# Altium schematic symbol library Microchip PIC12.SchLib: 457 symbols (part 7 of 15)
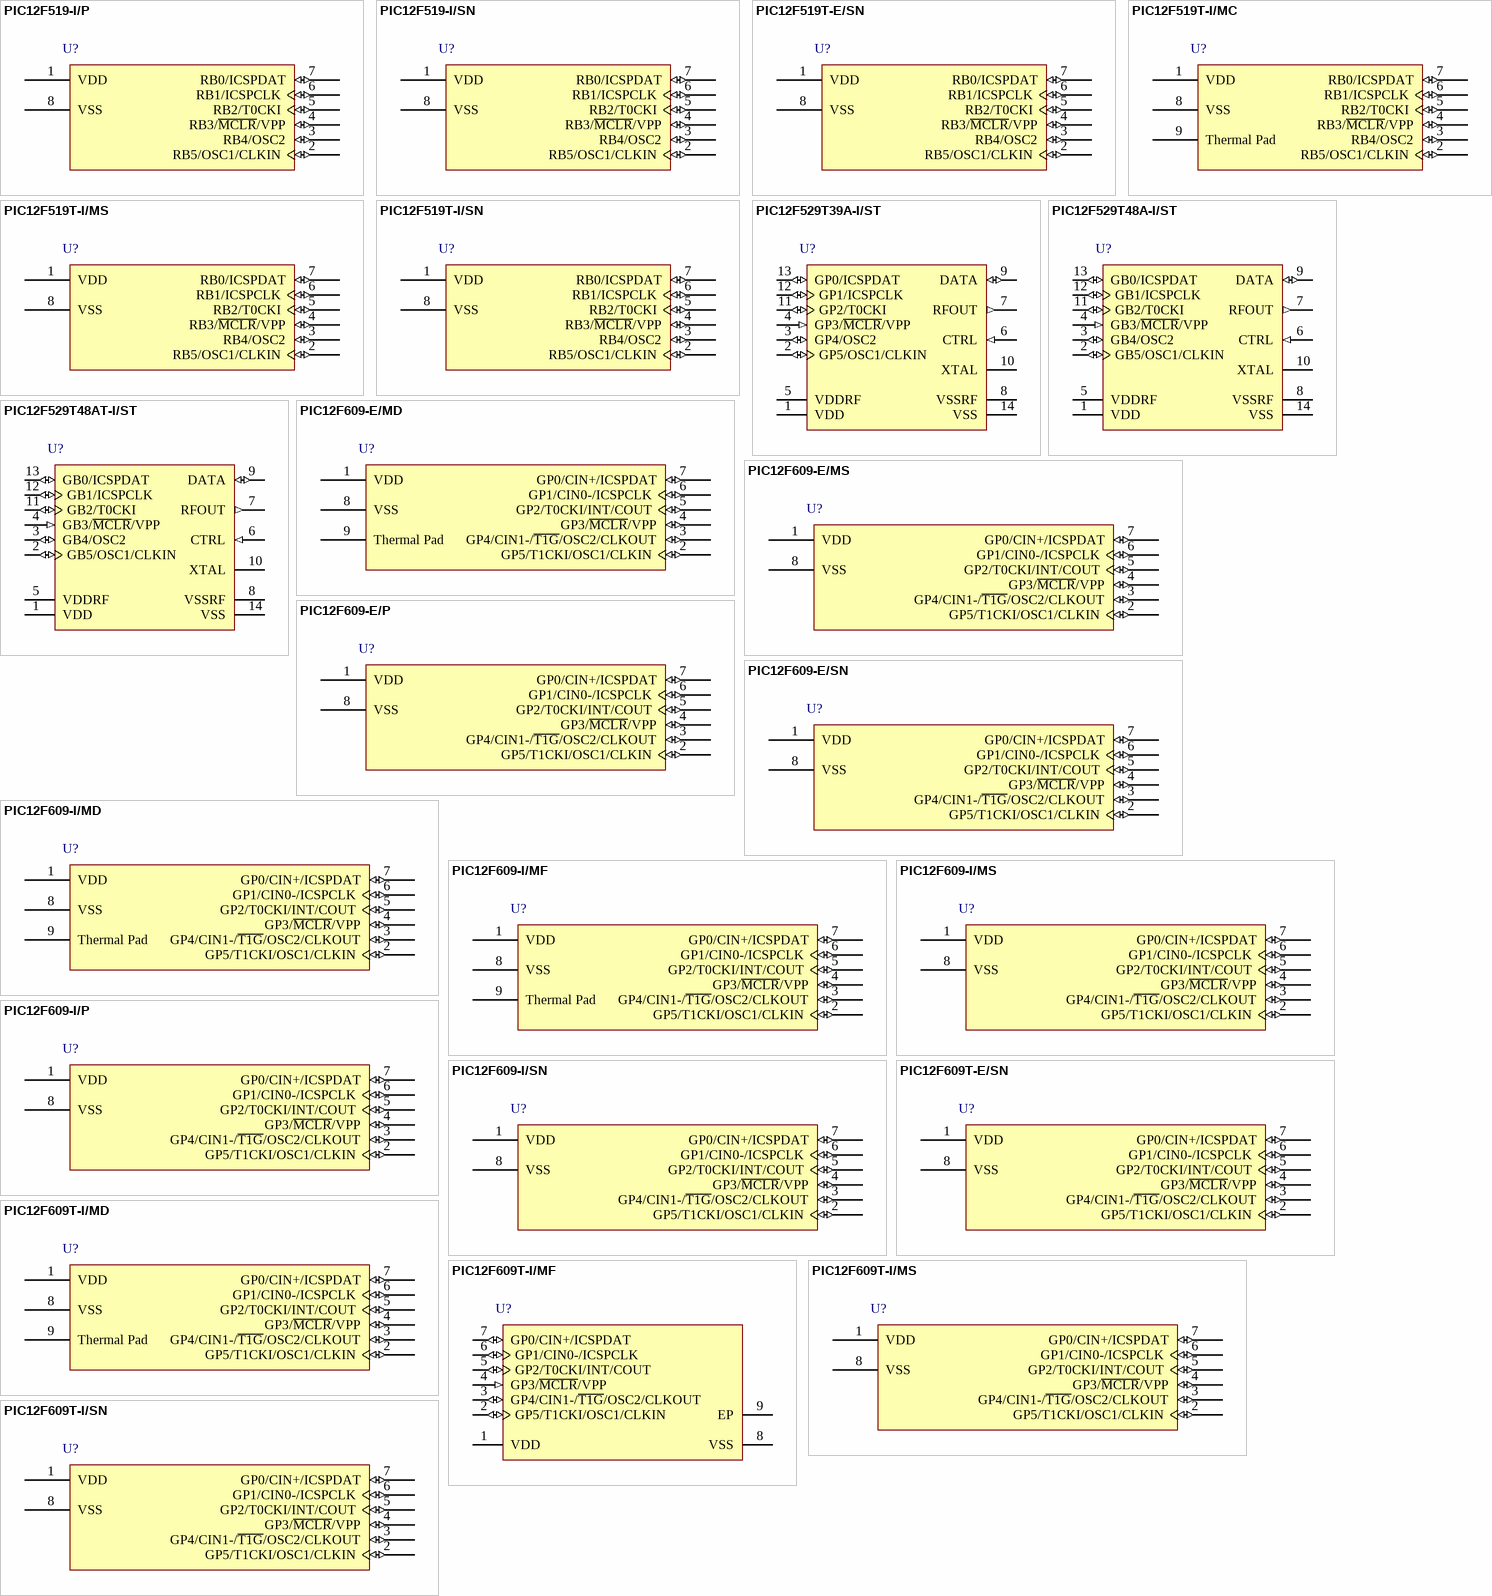
[diagram p21: symbols PIC12F519-I/P to PIC12F609T-I/SN]

## PIC12F609-I/MD
designator U?
Flash-Based 8-Bit CMOS Microcontroller, 1K (x14-Bit words) Program Memory, 64 Bytes Data Memory, 8-Pin DFN, Industrial Temperature; Manufacturer: Microchip; PartNumber: PIC12F609-I/MD; DatasheetVersion: revC, Sep-2009; PackageVersion: revBB, Aug-2009; PackageReference: DFN-MD8; PackageDescription: 8-Lead Plastic Dual Flat, No Lead Package (MD) - 4x4x0.9mm Body [DFN]; ComponentLink1Description: Manufacturer URL; ComponentLink1URL: http://www.microchip.com/; ComponentLink2Description: Datasheet; ComponentLink2URL: http://ww1.microchip.com/downloads/en/DeviceDoc/41302c.pdf; ComponentLink3Description: Package Specification; ComponentLink3URL: http://www.microchip.com/stellent/groups/techpub_sg/documents/packagingspec/en012702.pdf
footprint DFN-MD8 (SON, 8-Leads, Body 4x4mm, Pitch 0.8mm, Microchip Recommended)
pins: 1 VDD (power), 2 GP5/T1CKI/OSC1/CLKIN (io), 3 GP4/CIN1-/~{T1G}/OSC2/CLKOUT (io), 4 GP3/~{MCLR}/VPP (io), 5 GP2/T0CKI/INT/COUT (io), 6 GP1/CIN0-/ICSPCLK (io), 7 GP0/CIN+/ICSPDAT (io), 8 VSS (power), 9 Thermal Pad

## PIC12F609-I/MF
designator U?
Flash-Based 8-Bit CMOS Microcontroller, 1K (x14-Bit words) Program Memory, 64 Bytes Data Memory, 8-Pin DFN, Industrial Temperature; Manufacturer: Microchip; PartNumber: PIC12F609-I/MF; DatasheetVersion: revC, Sep-2009; PackageVersion: revBB, Aug-2009; PackageReference: DFN-MF8; PackageDescription: 8-Lead Plastic Dual Flat, No Lead Package (MF) - 3x3x0.9mm Body [DFN]; ComponentLink1Description: Manufacturer URL; ComponentLink1URL: http://www.microchip.com/; ComponentLink2Description: Datasheet; ComponentLink2URL: http://ww1.microchip.com/downloads/en/DeviceDoc/41302c.pdf; ComponentLink3Description: Package Specification; ComponentLink3URL: http://www.microchip.com/stellent/groups/techpub_sg/documents/packagingspec/en012702.pdf
footprint DFN-MF8 (SON, 8-Leads, Body 3x3mm, Pitch 0.65mm, Microchip Recommended)
pins: 1 VDD (power), 2 GP5/T1CKI/OSC1/CLKIN (io), 3 GP4/CIN1-/~{T1G}/OSC2/CLKOUT (io), 4 GP3/~{MCLR}/VPP (io), 5 GP2/T0CKI/INT/COUT (io), 6 GP1/CIN0-/ICSPCLK (io), 7 GP0/CIN+/ICSPDAT (io), 8 VSS (power), 9 Thermal Pad

## PIC12F609-I/MS
designator U?
Flash-Based 8-Bit CMOS Microcontroller, 1K (x14-Bit words) Program Memory, 64 Bytes Data Memory, 8-Pin MSOP, Industrial Temperature; Manufacturer: Microchip; PartNumber: PIC12F609-I/MS; DatasheetVersion: revC, Sep-2009; PackageVersion: revBB, Aug-2009; PackageReference: MSOP-MS8; PackageDescription: 8-Lead Plastic Micro Small Outline Package (MS) [MSOP]; ComponentLink1Description: Manufacturer URL; ComponentLink1URL: http://www.microchip.com/; ComponentLink2Description: Datasheet; ComponentLink2URL: http://ww1.microchip.com/downloads/en/DeviceDoc/41302c.pdf; ComponentLink3Description: Package Specification; ComponentLink3URL: http://www.microchip.com/stellent/groups/techpub_sg/documents/packagingspec/en012702.pdf
footprint MSOP-MS8_N (TSOP, 8-Leads, Body 3x3mm, Pitch 0.65mm, IPC Medium Density)
footprint MSOP-MS8_L (TSOP, 8-Leads, Body 3x3mm, Pitch 0.65mm, IPC High Density)
footprint MSOP-MS8_M (TSOP, 8-Leads, Body 3x3mm, Pitch 0.65mm, IPC Low Density)
pins: 1 VDD (power), 2 GP5/T1CKI/OSC1/CLKIN (io), 3 GP4/CIN1-/~{T1G}/OSC2/CLKOUT (io), 4 GP3/~{MCLR}/VPP (io), 5 GP2/T0CKI/INT/COUT (io), 6 GP1/CIN0-/ICSPCLK (io), 7 GP0/CIN+/ICSPDAT (io), 8 VSS (power)

## PIC12F609-I/P
designator U?
Flash-Based 8-Bit CMOS Microcontroller, 1K (x14-Bit words) Program Memory, 64 Bytes Data Memory, 8-Pin PDIP, Industrial Temperature; Manufacturer: Microchip; PartNumber: PIC12F609-I/P; DatasheetVersion: revC, Sep-2009; PackageVersion: revBB, Aug-2009; PackageReference: PDIP300-P8; PackageDescription: 8-Lead Plastic Dual In-Line (P) - 300 mil Body [PDIP]; Code_JEDEC: MS-001; ComponentLink1Description: Manufacturer URL; ComponentLink1URL: http://www.microchip.com/; ComponentLink2Description: Datasheet; ComponentLink2URL: http://ww1.microchip.com/downloads/en/DeviceDoc/41302c.pdf; ComponentLink3Description: Package Specification; ComponentLink3URL: http://www.microchip.com/stellent/groups/techpub_sg/documents/packagingspec/en012702.pdf
footprint PDIP300-P8 (DIP, 8-Leads, Row Spacing 7.62mm, Pitch 2.54mm, Body 9.5x6.6mm)
pins: 1 VDD (power), 2 GP5/T1CKI/OSC1/CLKIN (io), 3 GP4/CIN1-/~{T1G}/OSC2/CLKOUT (io), 4 GP3/~{MCLR}/VPP (io), 5 GP2/T0CKI/INT/COUT (io), 6 GP1/CIN0-/ICSPCLK (io), 7 GP0/CIN+/ICSPDAT (io), 8 VSS (power)

## PIC12F609-I/SN
designator U?
Flash-Based 8-Bit CMOS Microcontroller, 1K (x14-Bit words) Program Memory, 64 Bytes Data Memory, 8-Pin SOIC, Industrial Temperature; Manufacturer: Microchip; PartNumber: PIC12F609-I/SN; DatasheetVersion: revC, Sep-2009; PackageVersion: revBB, Aug-2009; PackageReference: SOIC-SN8; PackageDescription: 8-Lead Plastic Small Outline (SN) - Narrow, 3.90mm Body [SOIC]; Code_JEDEC: MS-012; Code_IPC: SOIC127P600-8; ComponentLink1Description: Manufacturer URL; ComponentLink1URL: http://www.microchip.com/; ComponentLink2Description: Datasheet; ComponentLink2URL: http://ww1.microchip.com/downloads/en/DeviceDoc/41302c.pdf; ComponentLink3Description: Package Specification; ComponentLink3URL: http://www.microchip.com/stellent/groups/techpub_sg/documents/packagingspec/en012702.pdf
footprint SOIC-SN8_N (SOIC, 8-Leads, Body 4.9x3.8mm, Pitch 1.27mm, IPC Medium Density)
footprint SOIC-SN8_L (SOIC, 8-Leads, Body 4.9x3.8mm, Pitch 1.27mm, IPC High Density)
footprint SOIC-SN8_M (SOIC, 8-Leads, Body 4.9x3.8mm, Pitch 1.27mm, IPC Low Density)
pins: 1 VDD (power), 2 GP5/T1CKI/OSC1/CLKIN (io), 3 GP4/CIN1-/~{T1G}/OSC2/CLKOUT (io), 4 GP3/~{MCLR}/VPP (io), 5 GP2/T0CKI/INT/COUT (io), 6 GP1/CIN0-/ICSPCLK (io), 7 GP0/CIN+/ICSPDAT (io), 8 VSS (power)

## PIC12F609T-E/SN
designator U?
Flash-Based 8-Bit CMOS Microcontroller, 1K (x14-Bit words) Program Memory, 64 Bytes Data Memory, 8-Pin SOIC, Extended Temperature, Tape and Reel; Manufacturer: Microchip; PartNumber: PIC12F609T-E/SN; DatasheetVersion: revC, Sep-2009; PackageVersion: revBB, Aug-2009; PackageReference: SOIC-SN8; PackageDescription: 8-Lead Plastic Small Outline (SN) - Narrow, 3.90mm Body [SOIC]; Code_JEDEC: MS-012; Code_IPC: SOIC127P600-8; ComponentLink1Description: Manufacturer URL; ComponentLink1URL: http://www.microchip.com/; ComponentLink2Description: Datasheet; ComponentLink2URL: http://ww1.microchip.com/downloads/en/DeviceDoc/41302c.pdf; ComponentLink3Description: Package Specification; ComponentLink3URL: http://www.microchip.com/stellent/groups/techpub_sg/documents/packagingspec/en012702.pdf
footprint SOIC-SN8_N (SOIC, 8-Leads, Body 4.9x3.8mm, Pitch 1.27mm, IPC Medium Density)
footprint SOIC-SN8_L (SOIC, 8-Leads, Body 4.9x3.8mm, Pitch 1.27mm, IPC High Density)
footprint SOIC-SN8_M (SOIC, 8-Leads, Body 4.9x3.8mm, Pitch 1.27mm, IPC Low Density)
pins: 1 VDD (power), 2 GP5/T1CKI/OSC1/CLKIN (io), 3 GP4/CIN1-/~{T1G}/OSC2/CLKOUT (io), 4 GP3/~{MCLR}/VPP (io), 5 GP2/T0CKI/INT/COUT (io), 6 GP1/CIN0-/ICSPCLK (io), 7 GP0/CIN+/ICSPDAT (io), 8 VSS (power)

## PIC12F609T-I/MD
designator U?
Flash-Based 8-Bit CMOS Microcontroller, 1K (x14-Bit words) Program Memory, 64 Bytes Data Memory, 8-Pin DFN, Industrial Temperature, Tape and Reel; Manufacturer: Microchip; PartNumber: PIC12F609T-I/MD; DatasheetVersion: revC, Sep-2009; PackageVersion: revBB, Aug-2009; PackageReference: DFN-MD8; PackageDescription: 8-Lead Plastic Dual Flat, No Lead Package (MD) - 4x4x0.9mm Body [DFN]; ComponentLink1Description: Manufacturer URL; ComponentLink1URL: http://www.microchip.com/; ComponentLink2Description: Datasheet; ComponentLink2URL: http://ww1.microchip.com/downloads/en/DeviceDoc/41302c.pdf; ComponentLink3Description: Package Specification; ComponentLink3URL: http://www.microchip.com/stellent/groups/techpub_sg/documents/packagingspec/en012702.pdf
footprint DFN-MD8 (SON, 8-Leads, Body 4x4mm, Pitch 0.8mm, Microchip Recommended)
pins: 1 VDD (power), 2 GP5/T1CKI/OSC1/CLKIN (io), 3 GP4/CIN1-/~{T1G}/OSC2/CLKOUT (io), 4 GP3/~{MCLR}/VPP (io), 5 GP2/T0CKI/INT/COUT (io), 6 GP1/CIN0-/ICSPCLK (io), 7 GP0/CIN+/ICSPDAT (io), 8 VSS (power), 9 Thermal Pad

## PIC12F609T-I/MF
designator U?
Flash-Based, 8-Bit CMOS Microcontroller, 20 MHz, 5 I/O, -40 to 85 degC, 8-pin DFN (MF8), Tape and Reel; Manufacturer: Microchip; PartNumber: PIC12F609T-I/MF; Digital Communication: 0 -UART, 0 -A/E/USART, 0 -SPI, 0 -I2C; I/O Pins: 5; Internal Oscillator: 4 MHz, 8 MHz; Max. CPU Speed MHz: 20; Memory Type: Flash; Operation Voltage Range: 2V - 5.5V; Packing: T/R; Program Memory KBytes: 1.75; Program Memory KWords: 1; RAM: 64; Timers: 1 - 8-bit, 1 - 16-bit; DatasheetVersion: Rev. D; PackageVersion: C04-062C, 12/2012; PackageReference: DFN-MF8; PackageDescription: 8-Lead Plastic Dual Flat, No Lead Package, 3 x 3 mm Body, 0.65 mm Pitch; Supplier 1: Digi-Key; Supplier Part Number 1: PIC12F609T-I/MF-ND; Supplier 2: Mouser; Supplier Part Number 2: 579-PIC12F609T-I/MF; RoHS: TRUE; Mounting Technology: Surface Mount; ComponentLink1Description: Datasheet; ComponentLink1URL: http://ww1.microchip.com/downloads/en/DeviceDoc/41302D.pdf; ComponentLink2Description: Package Specification; ComponentLink2URL: http://www.microchip.com/stellent/groups/techpub_sg/documents/packagingspec/en012702.pdf; ComponentLink3Description: URL Link1; ComponentLink3URL: Product URL:http://www.microchip.com/datasheet/PIC12F609
footprint MCHP-DFN-MF8_V (SON, 8-Leads, Body 3x3mm, Pitch 0.65mm, Thermal Pad 2.4x1.55mm)
pins: 1 VDD (power) "Positive supply", 2 GP5/T1CKI/OSC1/CLKIN (io), 3 GP4/CIN1-/~{T1G}/OSC2/CLKOUT (io), 4 GP3/~{MCLR}/VPP (in), 5 GP2/T0CKI/INT/COUT (io), 6 GP1/CIN0-/ICSPCLK (io), 7 GP0/CIN+/ICSPDAT (io), 8 VSS (power) "Ground reference", 9 EP "Exposed Pad"

## PIC12F609T-I/MS
designator U?
Flash-Based 8-Bit CMOS Microcontroller, 1K (x14-Bit words) Program Memory, 64 Bytes Data Memory, 8-Pin MSOP, Industrial Temperature, Tape and Reel; Manufacturer: Microchip; PartNumber: PIC12F609T-I/MS; DatasheetVersion: revC, Sep-2009; PackageVersion: revBB, Aug-2009; PackageReference: MSOP-MS8; PackageDescription: 8-Lead Plastic Micro Small Outline Package (MS) [MSOP]; ComponentLink1Description: Manufacturer URL; ComponentLink1URL: http://www.microchip.com/; ComponentLink2Description: Datasheet; ComponentLink2URL: http://ww1.microchip.com/downloads/en/DeviceDoc/41302c.pdf; ComponentLink3Description: Package Specification; ComponentLink3URL: http://www.microchip.com/stellent/groups/techpub_sg/documents/packagingspec/en012702.pdf
footprint MSOP-MS8_N (TSOP, 8-Leads, Body 3x3mm, Pitch 0.65mm, IPC Medium Density)
footprint MSOP-MS8_L (TSOP, 8-Leads, Body 3x3mm, Pitch 0.65mm, IPC High Density)
footprint MSOP-MS8_M (TSOP, 8-Leads, Body 3x3mm, Pitch 0.65mm, IPC Low Density)
pins: 1 VDD (power), 2 GP5/T1CKI/OSC1/CLKIN (io), 3 GP4/CIN1-/~{T1G}/OSC2/CLKOUT (io), 4 GP3/~{MCLR}/VPP (io), 5 GP2/T0CKI/INT/COUT (io), 6 GP1/CIN0-/ICSPCLK (io), 7 GP0/CIN+/ICSPDAT (io), 8 VSS (power)

## PIC12F609T-I/SN
designator U?
Flash-Based 8-Bit CMOS Microcontroller, 1K (x14-Bit words) Program Memory, 64 Bytes Data Memory, 8-Pin SOIC, Industrial Temperature, Tape and Reel; Manufacturer: Microchip; PartNumber: PIC12F609T-I/SN; DatasheetVersion: revC, Sep-2009; PackageVersion: revBB, Aug-2009; PackageReference: SOIC-SN8; PackageDescription: 8-Lead Plastic Small Outline (SN) - Narrow, 3.90mm Body [SOIC]; Code_JEDEC: MS-012; Code_IPC: SOIC127P600-8; ComponentLink1Description: Manufacturer URL; ComponentLink1URL: http://www.microchip.com/; ComponentLink2Description: Datasheet; ComponentLink2URL: http://ww1.microchip.com/downloads/en/DeviceDoc/41302c.pdf; ComponentLink3Description: Package Specification; ComponentLink3URL: http://www.microchip.com/stellent/groups/techpub_sg/documents/packagingspec/en012702.pdf
footprint SOIC-SN8_N (SOIC, 8-Leads, Body 4.9x3.8mm, Pitch 1.27mm, IPC Medium Density)
footprint SOIC-SN8_L (SOIC, 8-Leads, Body 4.9x3.8mm, Pitch 1.27mm, IPC High Density)
footprint SOIC-SN8_M (SOIC, 8-Leads, Body 4.9x3.8mm, Pitch 1.27mm, IPC Low Density)
pins: 1 VDD (power), 2 GP5/T1CKI/OSC1/CLKIN (io), 3 GP4/CIN1-/~{T1G}/OSC2/CLKOUT (io), 4 GP3/~{MCLR}/VPP (io), 5 GP2/T0CKI/INT/COUT (io), 6 GP1/CIN0-/ICSPCLK (io), 7 GP0/CIN+/ICSPDAT (io), 8 VSS (power)

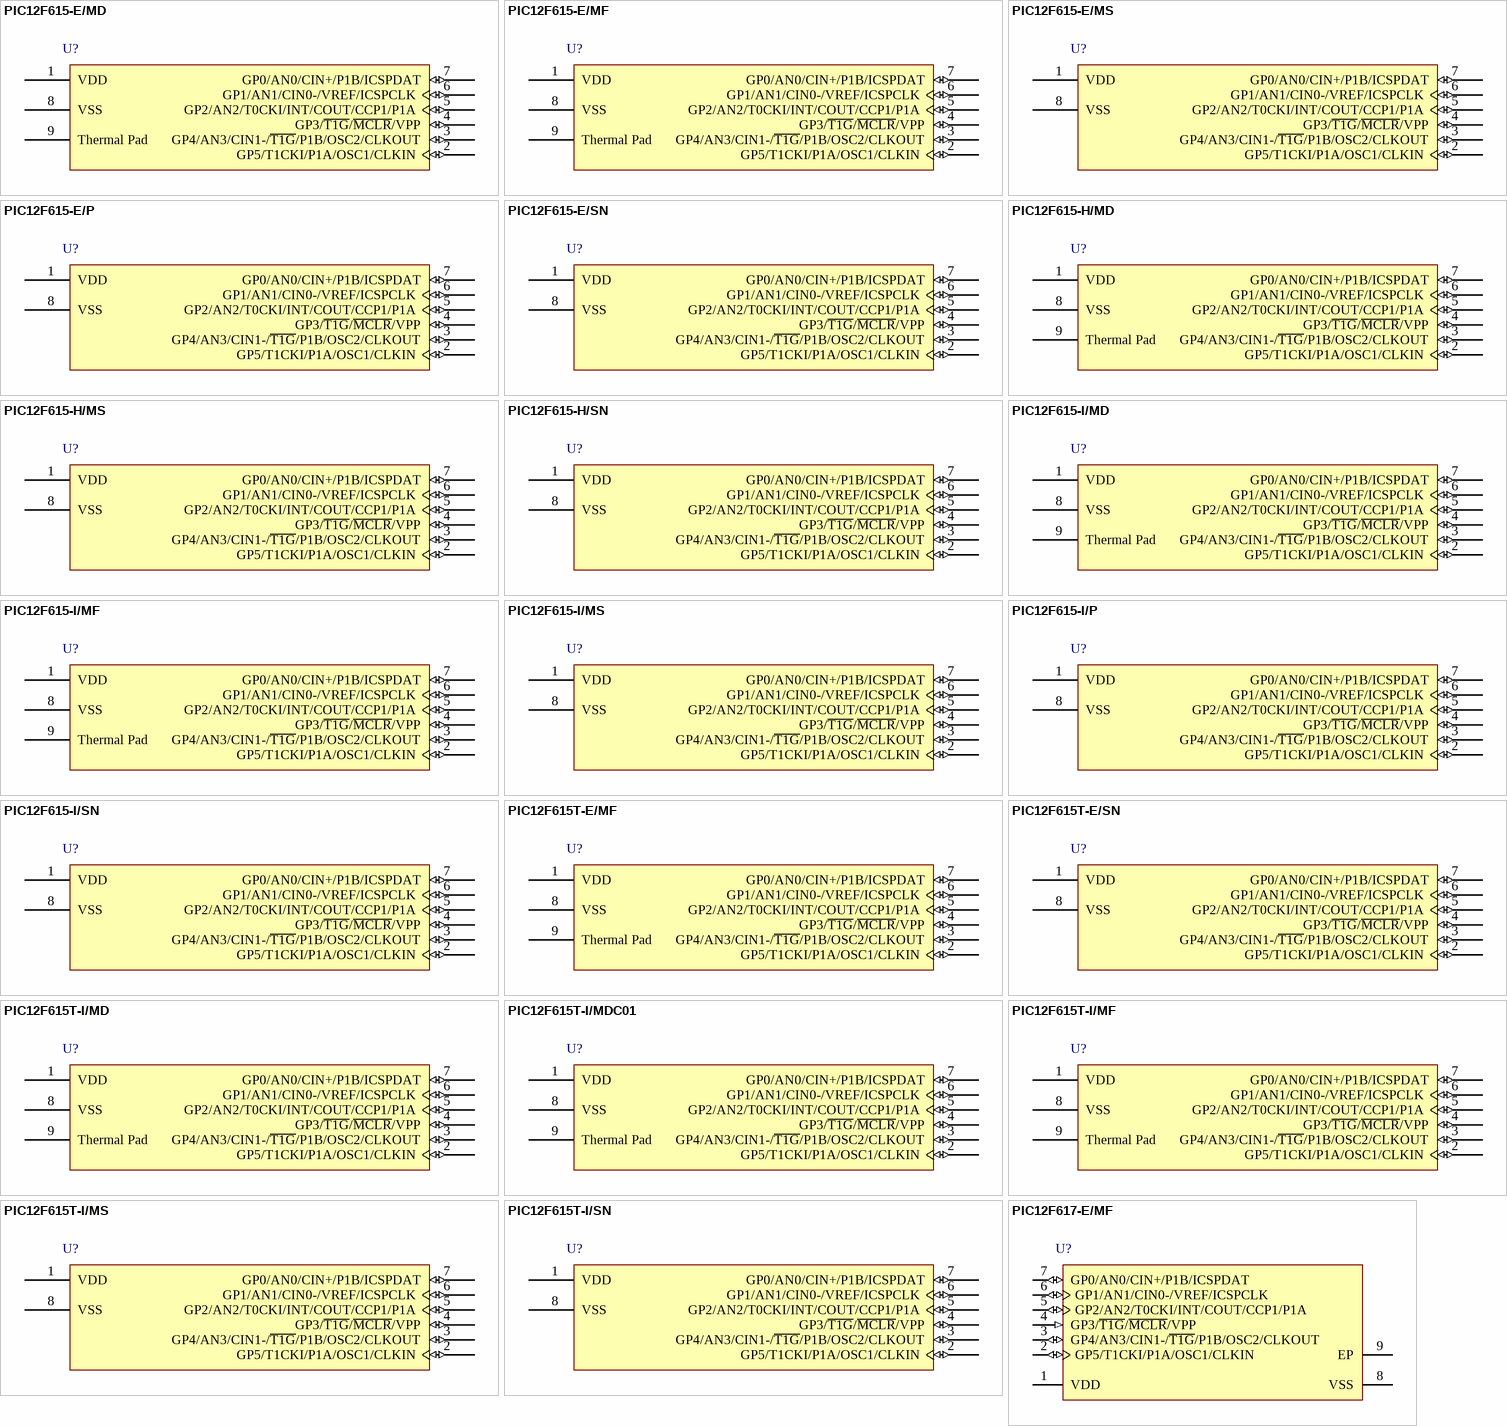
[diagram p6: symbols PIC12F615-E/MD to PIC12F617-E/MF]

## PIC12F615-E/MD
designator U?
Flash-Based 8-Bit CMOS Microcontroller, 1K (x14-Bit words) Program Memory, 64 Bytes Data Memory, 8-Pin DFN, Extended Temperature; Manufacturer: Microchip; PartNumber: PIC12F615-E/MD; DatasheetVersion: revC, Sep-2009; PackageVersion: revBB, Aug-2009; PackageReference: DFN-MD8; PackageDescription: 8-Lead Plastic Dual Flat, No Lead Package (MD) - 4x4x0.9mm Body [DFN]; ComponentLink1Description: Manufacturer URL; ComponentLink1URL: http://www.microchip.com/; ComponentLink2Description: Datasheet; ComponentLink2URL: http://ww1.microchip.com/downloads/en/DeviceDoc/41302c.pdf; ComponentLink3Description: Package Specification; ComponentLink3URL: http://www.microchip.com/stellent/groups/techpub_sg/documents/packagingspec/en012702.pdf
footprint DFN-MD8 (SON, 8-Leads, Body 4x4mm, Pitch 0.8mm, Microchip Recommended)
pins: 1 VDD (power), 2 GP5/T1CKI/P1A/OSC1/CLKIN (io), 3 GP4/AN3/CIN1-/~{T1G}/P1B/OSC2/CLKOUT (io), 4 GP3/~{T1G}/~{MCLR}/VPP (io), 5 GP2/AN2/T0CKI/INT/COUT/CCP1/P1A (io), 6 GP1/AN1/CIN0-/VREF/ICSPCLK (io), 7 GP0/AN0/CIN+/P1B/ICSPDAT (io), 8 VSS (power), 9 Thermal Pad

## PIC12F615-E/MF
designator U?
Flash-Based 8-Bit CMOS Microcontroller, 1K (x14-Bit words) Program Memory, 64 Bytes Data Memory, 8-Pin DFN, Extended Temperature; Manufacturer: Microchip; PartNumber: PIC12F615-E/MF; DatasheetVersion: revC, Sep-2009; PackageVersion: revBB, Aug-2009; PackageReference: DFN-MF8; PackageDescription: 8-Lead Plastic Dual Flat, No Lead Package (MF) - 3x3x0.9mm Body [DFN]; ComponentLink1Description: Manufacturer URL; ComponentLink1URL: http://www.microchip.com/; ComponentLink2Description: Datasheet; ComponentLink2URL: http://ww1.microchip.com/downloads/en/DeviceDoc/41302c.pdf; ComponentLink3Description: Package Specification; ComponentLink3URL: http://www.microchip.com/stellent/groups/techpub_sg/documents/packagingspec/en012702.pdf
footprint DFN-MF8 (SON, 8-Leads, Body 3x3mm, Pitch 0.65mm, Microchip Recommended)
pins: 1 VDD (power), 2 GP5/T1CKI/P1A/OSC1/CLKIN (io), 3 GP4/AN3/CIN1-/~{T1G}/P1B/OSC2/CLKOUT (io), 4 GP3/~{T1G}/~{MCLR}/VPP (io), 5 GP2/AN2/T0CKI/INT/COUT/CCP1/P1A (io), 6 GP1/AN1/CIN0-/VREF/ICSPCLK (io), 7 GP0/AN0/CIN+/P1B/ICSPDAT (io), 8 VSS (power), 9 Thermal Pad

## PIC12F615-E/MS
designator U?
Flash-Based 8-Bit CMOS Microcontroller, 1K (x14-Bit words) Program Memory, 64 Bytes Data Memory, 8-Pin MSOP, Extended Temperature; Manufacturer: Microchip; PartNumber: PIC12F615-E/MS; DatasheetVersion: revC, Sep-2009; PackageVersion: revBB, Aug-2009; PackageReference: MSOP-MS8; PackageDescription: 8-Lead Plastic Micro Small Outline Package (MS) [MSOP]; ComponentLink1Description: Manufacturer URL; ComponentLink1URL: http://www.microchip.com/; ComponentLink2Description: Datasheet; ComponentLink2URL: http://ww1.microchip.com/downloads/en/DeviceDoc/41302c.pdf; ComponentLink3Description: Package Specification; ComponentLink3URL: http://www.microchip.com/stellent/groups/techpub_sg/documents/packagingspec/en012702.pdf
footprint MSOP-MS8_N (TSOP, 8-Leads, Body 3x3mm, Pitch 0.65mm, IPC Medium Density)
footprint MSOP-MS8_L (TSOP, 8-Leads, Body 3x3mm, Pitch 0.65mm, IPC High Density)
footprint MSOP-MS8_M (TSOP, 8-Leads, Body 3x3mm, Pitch 0.65mm, IPC Low Density)
pins: 1 VDD (power), 2 GP5/T1CKI/P1A/OSC1/CLKIN (io), 3 GP4/AN3/CIN1-/~{T1G}/P1B/OSC2/CLKOUT (io), 4 GP3/~{T1G}/~{MCLR}/VPP (io), 5 GP2/AN2/T0CKI/INT/COUT/CCP1/P1A (io), 6 GP1/AN1/CIN0-/VREF/ICSPCLK (io), 7 GP0/AN0/CIN+/P1B/ICSPDAT (io), 8 VSS (power)

## PIC12F615-E/P
designator U?
Flash-Based 8-Bit CMOS Microcontroller, 1K (x14-Bit words) Program Memory, 64 Bytes Data Memory, 8-Pin PDIP, Extended Temperature; Manufacturer: Microchip; PartNumber: PIC12F615-E/P; DatasheetVersion: revC, Sep-2009; PackageVersion: revBB, Aug-2009; PackageReference: PDIP300-P8; PackageDescription: 8-Lead Plastic Dual In-Line (P) - 300 mil Body [PDIP]; Code_JEDEC: MS-001; ComponentLink1Description: Manufacturer URL; ComponentLink1URL: http://www.microchip.com/; ComponentLink2Description: Datasheet; ComponentLink2URL: http://ww1.microchip.com/downloads/en/DeviceDoc/41302c.pdf; ComponentLink3Description: Package Specification; ComponentLink3URL: http://www.microchip.com/stellent/groups/techpub_sg/documents/packagingspec/en012702.pdf
footprint PDIP300-P8 (DIP, 8-Leads, Row Spacing 7.62mm, Pitch 2.54mm, Body 9.5x6.6mm)
pins: 1 VDD (power), 2 GP5/T1CKI/P1A/OSC1/CLKIN (io), 3 GP4/AN3/CIN1-/~{T1G}/P1B/OSC2/CLKOUT (io), 4 GP3/~{T1G}/~{MCLR}/VPP (io), 5 GP2/AN2/T0CKI/INT/COUT/CCP1/P1A (io), 6 GP1/AN1/CIN0-/VREF/ICSPCLK (io), 7 GP0/AN0/CIN+/P1B/ICSPDAT (io), 8 VSS (power)

## PIC12F615-E/SN
designator U?
Flash-Based 8-Bit CMOS Microcontroller, 1K (x14-Bit words) Program Memory, 64 Bytes Data Memory, 8-Pin SOIC, Extended Temperature; Manufacturer: Microchip; PartNumber: PIC12F615-E/SN; DatasheetVersion: revC, Sep-2009; PackageVersion: revBB, Aug-2009; PackageReference: SOIC-SN8; PackageDescription: 8-Lead Plastic Small Outline (SN) - Narrow, 3.90mm Body [SOIC]; Code_JEDEC: MS-012; Code_IPC: SOIC127P600-8; ComponentLink1Description: Manufacturer URL; ComponentLink1URL: http://www.microchip.com/; ComponentLink2Description: Datasheet; ComponentLink2URL: http://ww1.microchip.com/downloads/en/DeviceDoc/41302c.pdf; ComponentLink3Description: Package Specification; ComponentLink3URL: http://www.microchip.com/stellent/groups/techpub_sg/documents/packagingspec/en012702.pdf
footprint SOIC-SN8_N (SOIC, 8-Leads, Body 4.9x3.8mm, Pitch 1.27mm, IPC Medium Density)
footprint SOIC-SN8_L (SOIC, 8-Leads, Body 4.9x3.8mm, Pitch 1.27mm, IPC High Density)
footprint SOIC-SN8_M (SOIC, 8-Leads, Body 4.9x3.8mm, Pitch 1.27mm, IPC Low Density)
pins: 1 VDD (power), 2 GP5/T1CKI/P1A/OSC1/CLKIN (io), 3 GP4/AN3/CIN1-/~{T1G}/P1B/OSC2/CLKOUT (io), 4 GP3/~{T1G}/~{MCLR}/VPP (io), 5 GP2/AN2/T0CKI/INT/COUT/CCP1/P1A (io), 6 GP1/AN1/CIN0-/VREF/ICSPCLK (io), 7 GP0/AN0/CIN+/P1B/ICSPDAT (io), 8 VSS (power)

## PIC12F615-H/MD
designator U?
Flash-Based 8-Bit CMOS Microcontroller, 1K (x14-Bit words) Program Memory, 64 Bytes Data Memory, 8-Pin DFN, High Temperature; Manufacturer: Microchip; PartNumber: PIC12F615-H/MD; DatasheetVersion: revC, Sep-2009; PackageVersion: revBB, Aug-2009; PackageReference: DFN-MD8; PackageDescription: 8-Lead Plastic Dual Flat, No Lead Package (MD) - 4x4x0.9mm Body [DFN]; ComponentLink1Description: Manufacturer URL; ComponentLink1URL: http://www.microchip.com/; ComponentLink2Description: Datasheet; ComponentLink2URL: http://ww1.microchip.com/downloads/en/DeviceDoc/41302c.pdf; ComponentLink3Description: Package Specification; ComponentLink3URL: http://www.microchip.com/stellent/groups/techpub_sg/documents/packagingspec/en012702.pdf
footprint DFN-MD8 (SON, 8-Leads, Body 4x4mm, Pitch 0.8mm, Microchip Recommended)
pins: 1 VDD (power), 2 GP5/T1CKI/P1A/OSC1/CLKIN (io), 3 GP4/AN3/CIN1-/~{T1G}/P1B/OSC2/CLKOUT (io), 4 GP3/~{T1G}/~{MCLR}/VPP (io), 5 GP2/AN2/T0CKI/INT/COUT/CCP1/P1A (io), 6 GP1/AN1/CIN0-/VREF/ICSPCLK (io), 7 GP0/AN0/CIN+/P1B/ICSPDAT (io), 8 VSS (power), 9 Thermal Pad

## PIC12F615-H/MS
designator U?
Flash-Based 8-Bit CMOS Microcontroller, 1K (x14-Bit words) Program Memory, 64 Bytes Data Memory, 8-Pin MSOP, High Temperature; Manufacturer: Microchip; PartNumber: PIC12F615-H/MS; DatasheetVersion: revC, Sep-2009; PackageVersion: revBB, Aug-2009; PackageReference: MSOP-MS8; PackageDescription: 8-Lead Plastic Micro Small Outline Package (MS) [MSOP]; ComponentLink1Description: Manufacturer URL; ComponentLink1URL: http://www.microchip.com/; ComponentLink2Description: Datasheet; ComponentLink2URL: http://ww1.microchip.com/downloads/en/DeviceDoc/41302c.pdf; ComponentLink3Description: Package Specification; ComponentLink3URL: http://www.microchip.com/stellent/groups/techpub_sg/documents/packagingspec/en012702.pdf
footprint MSOP-MS8_N (TSOP, 8-Leads, Body 3x3mm, Pitch 0.65mm, IPC Medium Density)
footprint MSOP-MS8_L (TSOP, 8-Leads, Body 3x3mm, Pitch 0.65mm, IPC High Density)
footprint MSOP-MS8_M (TSOP, 8-Leads, Body 3x3mm, Pitch 0.65mm, IPC Low Density)
pins: 1 VDD (power), 2 GP5/T1CKI/P1A/OSC1/CLKIN (io), 3 GP4/AN3/CIN1-/~{T1G}/P1B/OSC2/CLKOUT (io), 4 GP3/~{T1G}/~{MCLR}/VPP (io), 5 GP2/AN2/T0CKI/INT/COUT/CCP1/P1A (io), 6 GP1/AN1/CIN0-/VREF/ICSPCLK (io), 7 GP0/AN0/CIN+/P1B/ICSPDAT (io), 8 VSS (power)

## PIC12F615-H/SN
designator U?
Flash-Based 8-Bit CMOS Microcontroller, 1K (x14-Bit words) Program Memory, 64 Bytes Data Memory, 8-Pin SOIC, High Temperature; Manufacturer: Microchip; PartNumber: PIC12F615-H/SN; DatasheetVersion: revC, Sep-2009; PackageVersion: revBB, Aug-2009; PackageReference: SOIC-SN8; PackageDescription: 8-Lead Plastic Small Outline (SN) - Narrow, 3.90mm Body [SOIC]; Code_JEDEC: MS-012; Code_IPC: SOIC127P600-8; ComponentLink1Description: Manufacturer URL; ComponentLink1URL: http://www.microchip.com/; ComponentLink2Description: Datasheet; ComponentLink2URL: http://ww1.microchip.com/downloads/en/DeviceDoc/41302c.pdf; ComponentLink3Description: Package Specification; ComponentLink3URL: http://www.microchip.com/stellent/groups/techpub_sg/documents/packagingspec/en012702.pdf
footprint SOIC-SN8_N (SOIC, 8-Leads, Body 4.9x3.8mm, Pitch 1.27mm, IPC Medium Density)
footprint SOIC-SN8_L (SOIC, 8-Leads, Body 4.9x3.8mm, Pitch 1.27mm, IPC High Density)
footprint SOIC-SN8_M (SOIC, 8-Leads, Body 4.9x3.8mm, Pitch 1.27mm, IPC Low Density)
pins: 1 VDD (power), 2 GP5/T1CKI/P1A/OSC1/CLKIN (io), 3 GP4/AN3/CIN1-/~{T1G}/P1B/OSC2/CLKOUT (io), 4 GP3/~{T1G}/~{MCLR}/VPP (io), 5 GP2/AN2/T0CKI/INT/COUT/CCP1/P1A (io), 6 GP1/AN1/CIN0-/VREF/ICSPCLK (io), 7 GP0/AN0/CIN+/P1B/ICSPDAT (io), 8 VSS (power)

## PIC12F615-I/MD
designator U?
Flash-Based 8-Bit CMOS Microcontroller, 1K (x14-Bit words) Program Memory, 64 Bytes Data Memory, 8-Pin DFN, Industrial Temperature; Manufacturer: Microchip; PartNumber: PIC12F615-I/MD; DatasheetVersion: revC, Sep-2009; PackageVersion: revBB, Aug-2009; PackageReference: DFN-MD8; PackageDescription: 8-Lead Plastic Dual Flat, No Lead Package (MD) - 4x4x0.9mm Body [DFN]; ComponentLink1Description: Manufacturer URL; ComponentLink1URL: http://www.microchip.com/; ComponentLink2Description: Datasheet; ComponentLink2URL: http://ww1.microchip.com/downloads/en/DeviceDoc/41302c.pdf; ComponentLink3Description: Package Specification; ComponentLink3URL: http://www.microchip.com/stellent/groups/techpub_sg/documents/packagingspec/en012702.pdf
footprint DFN-MD8 (SON, 8-Leads, Body 4x4mm, Pitch 0.8mm, Microchip Recommended)
pins: 1 VDD (power), 2 GP5/T1CKI/P1A/OSC1/CLKIN (io), 3 GP4/AN3/CIN1-/~{T1G}/P1B/OSC2/CLKOUT (io), 4 GP3/~{T1G}/~{MCLR}/VPP (io), 5 GP2/AN2/T0CKI/INT/COUT/CCP1/P1A (io), 6 GP1/AN1/CIN0-/VREF/ICSPCLK (io), 7 GP0/AN0/CIN+/P1B/ICSPDAT (io), 8 VSS (power), 9 Thermal Pad

## PIC12F615-I/MF
designator U?
Flash-Based 8-Bit CMOS Microcontroller, 1K (x14-Bit words) Program Memory, 64 Bytes Data Memory, 8-Pin DFN, Industrial Temperature; Manufacturer: Microchip; PartNumber: PIC12F615-I/MF; DatasheetVersion: revC, Sep-2009; PackageVersion: revBB, Aug-2009; PackageReference: DFN-MF8; PackageDescription: 8-Lead Plastic Dual Flat, No Lead Package (MF) - 3x3x0.9mm Body [DFN]; ComponentLink1Description: Manufacturer URL; ComponentLink1URL: http://www.microchip.com/; ComponentLink2Description: Datasheet; ComponentLink2URL: http://ww1.microchip.com/downloads/en/DeviceDoc/41302c.pdf; ComponentLink3Description: Package Specification; ComponentLink3URL: http://www.microchip.com/stellent/groups/techpub_sg/documents/packagingspec/en012702.pdf
footprint DFN-MF8 (SON, 8-Leads, Body 3x3mm, Pitch 0.65mm, Microchip Recommended)
pins: 1 VDD (power), 2 GP5/T1CKI/P1A/OSC1/CLKIN (io), 3 GP4/AN3/CIN1-/~{T1G}/P1B/OSC2/CLKOUT (io), 4 GP3/~{T1G}/~{MCLR}/VPP (io), 5 GP2/AN2/T0CKI/INT/COUT/CCP1/P1A (io), 6 GP1/AN1/CIN0-/VREF/ICSPCLK (io), 7 GP0/AN0/CIN+/P1B/ICSPDAT (io), 8 VSS (power), 9 Thermal Pad

## PIC12F615-I/MS
designator U?
Flash-Based 8-Bit CMOS Microcontroller, 1K (x14-Bit words) Program Memory, 64 Bytes Data Memory, 8-Pin MSOP, Industrial Temperature; Manufacturer: Microchip; PartNumber: PIC12F615-I/MS; DatasheetVersion: revC, Sep-2009; PackageVersion: revBB, Aug-2009; PackageReference: MSOP-MS8; PackageDescription: 8-Lead Plastic Micro Small Outline Package (MS) [MSOP]; ComponentLink1Description: Manufacturer URL; ComponentLink1URL: http://www.microchip.com/; ComponentLink2Description: Datasheet; ComponentLink2URL: http://ww1.microchip.com/downloads/en/DeviceDoc/41302c.pdf; ComponentLink3Description: Package Specification; ComponentLink3URL: http://www.microchip.com/stellent/groups/techpub_sg/documents/packagingspec/en012702.pdf
footprint MSOP-MS8_N (TSOP, 8-Leads, Body 3x3mm, Pitch 0.65mm, IPC Medium Density)
footprint MSOP-MS8_L (TSOP, 8-Leads, Body 3x3mm, Pitch 0.65mm, IPC High Density)
footprint MSOP-MS8_M (TSOP, 8-Leads, Body 3x3mm, Pitch 0.65mm, IPC Low Density)
pins: 1 VDD (power), 2 GP5/T1CKI/P1A/OSC1/CLKIN (io), 3 GP4/AN3/CIN1-/~{T1G}/P1B/OSC2/CLKOUT (io), 4 GP3/~{T1G}/~{MCLR}/VPP (io), 5 GP2/AN2/T0CKI/INT/COUT/CCP1/P1A (io), 6 GP1/AN1/CIN0-/VREF/ICSPCLK (io), 7 GP0/AN0/CIN+/P1B/ICSPDAT (io), 8 VSS (power)

## PIC12F615-I/P
designator U?
Flash-Based 8-Bit CMOS Microcontroller, 1K (x14-Bit words) Program Memory, 64 Bytes Data Memory, 8-Pin PDIP, Industrial Temperature; Manufacturer: Microchip; PartNumber: PIC12F615-I/P; DatasheetVersion: revC, Sep-2009; PackageVersion: revBB, Aug-2009; PackageReference: PDIP300-P8; PackageDescription: 8-Lead Plastic Dual In-Line (P) - 300 mil Body [PDIP]; Code_JEDEC: MS-001; ComponentLink1Description: Manufacturer URL; ComponentLink1URL: http://www.microchip.com/; ComponentLink2Description: Datasheet; ComponentLink2URL: http://ww1.microchip.com/downloads/en/DeviceDoc/41302c.pdf; ComponentLink3Description: Package Specification; ComponentLink3URL: http://www.microchip.com/stellent/groups/techpub_sg/documents/packagingspec/en012702.pdf
footprint PDIP300-P8 (DIP, 8-Leads, Row Spacing 7.62mm, Pitch 2.54mm, Body 9.5x6.6mm)
pins: 1 VDD (power), 2 GP5/T1CKI/P1A/OSC1/CLKIN (io), 3 GP4/AN3/CIN1-/~{T1G}/P1B/OSC2/CLKOUT (io), 4 GP3/~{T1G}/~{MCLR}/VPP (io), 5 GP2/AN2/T0CKI/INT/COUT/CCP1/P1A (io), 6 GP1/AN1/CIN0-/VREF/ICSPCLK (io), 7 GP0/AN0/CIN+/P1B/ICSPDAT (io), 8 VSS (power)

## PIC12F615-I/SN
designator U?
Flash-Based 8-Bit CMOS Microcontroller, 1K (x14-Bit words) Program Memory, 64 Bytes Data Memory, 8-Pin SOIC, Industrial Temperature; Manufacturer: Microchip; PartNumber: PIC12F615-I/SN; DatasheetVersion: revC, Sep-2009; PackageVersion: revBB, Aug-2009; PackageReference: SOIC-SN8; PackageDescription: 8-Lead Plastic Small Outline (SN) - Narrow, 3.90mm Body [SOIC]; Code_JEDEC: MS-012; Code_IPC: SOIC127P600-8; ComponentLink1Description: Manufacturer URL; ComponentLink1URL: http://www.microchip.com/; ComponentLink2Description: Datasheet; ComponentLink2URL: http://ww1.microchip.com/downloads/en/DeviceDoc/41302c.pdf; ComponentLink3Description: Package Specification; ComponentLink3URL: http://www.microchip.com/stellent/groups/techpub_sg/documents/packagingspec/en012702.pdf
footprint SOIC-SN8_N (SOIC, 8-Leads, Body 4.9x3.8mm, Pitch 1.27mm, IPC Medium Density)
footprint SOIC-SN8_L (SOIC, 8-Leads, Body 4.9x3.8mm, Pitch 1.27mm, IPC High Density)
footprint SOIC-SN8_M (SOIC, 8-Leads, Body 4.9x3.8mm, Pitch 1.27mm, IPC Low Density)
pins: 1 VDD (power), 2 GP5/T1CKI/P1A/OSC1/CLKIN (io), 3 GP4/AN3/CIN1-/~{T1G}/P1B/OSC2/CLKOUT (io), 4 GP3/~{T1G}/~{MCLR}/VPP (io), 5 GP2/AN2/T0CKI/INT/COUT/CCP1/P1A (io), 6 GP1/AN1/CIN0-/VREF/ICSPCLK (io), 7 GP0/AN0/CIN+/P1B/ICSPDAT (io), 8 VSS (power)

## PIC12F615T-E/MF
designator U?
Flash-Based 8-Bit CMOS Microcontroller, 1K (x14-Bit words) Program Memory, 64 Bytes Data Memory, 8-Pin DFN, Extended Temperature, Tape and Reel; Manufacturer: Microchip; PartNumber: PIC12F615T-E/MF; DatasheetVersion: revC, Sep-2009; PackageVersion: revBB, Aug-2009; PackageReference: DFN-MF8; PackageDescription: 8-Lead Plastic Dual Flat, No Lead Package (MF) - 3x3x0.9mm Body [DFN]; ComponentLink1Description: Manufacturer URL; ComponentLink1URL: http://www.microchip.com/; ComponentLink2Description: Datasheet; ComponentLink2URL: http://ww1.microchip.com/downloads/en/DeviceDoc/41302c.pdf; ComponentLink3Description: Package Specification; ComponentLink3URL: http://www.microchip.com/stellent/groups/techpub_sg/documents/packagingspec/en012702.pdf
footprint DFN-MF8 (SON, 8-Leads, Body 3x3mm, Pitch 0.65mm, Microchip Recommended)
pins: 1 VDD (power), 2 GP5/T1CKI/P1A/OSC1/CLKIN (io), 3 GP4/AN3/CIN1-/~{T1G}/P1B/OSC2/CLKOUT (io), 4 GP3/~{T1G}/~{MCLR}/VPP (io), 5 GP2/AN2/T0CKI/INT/COUT/CCP1/P1A (io), 6 GP1/AN1/CIN0-/VREF/ICSPCLK (io), 7 GP0/AN0/CIN+/P1B/ICSPDAT (io), 8 VSS (power), 9 Thermal Pad

## PIC12F615T-E/SN
designator U?
Flash-Based 8-Bit CMOS Microcontroller, 1K (x14-Bit words) Program Memory, 64 Bytes Data Memory, 8-Pin SOIC, Extended Temperature, Tape and Reel; Manufacturer: Microchip; PartNumber: PIC12F615T-E/SN; DatasheetVersion: revC, Sep-2009; PackageVersion: revBB, Aug-2009; PackageReference: SOIC-SN8; PackageDescription: 8-Lead Plastic Small Outline (SN) - Narrow, 3.90mm Body [SOIC]; Code_JEDEC: MS-012; Code_IPC: SOIC127P600-8; ComponentLink1Description: Manufacturer URL; ComponentLink1URL: http://www.microchip.com/; ComponentLink2Description: Datasheet; ComponentLink2URL: http://ww1.microchip.com/downloads/en/DeviceDoc/41302c.pdf; ComponentLink3Description: Package Specification; ComponentLink3URL: http://www.microchip.com/stellent/groups/techpub_sg/documents/packagingspec/en012702.pdf
footprint SOIC-SN8_N (SOIC, 8-Leads, Body 4.9x3.8mm, Pitch 1.27mm, IPC Medium Density)
footprint SOIC-SN8_L (SOIC, 8-Leads, Body 4.9x3.8mm, Pitch 1.27mm, IPC High Density)
footprint SOIC-SN8_M (SOIC, 8-Leads, Body 4.9x3.8mm, Pitch 1.27mm, IPC Low Density)
pins: 1 VDD (power), 2 GP5/T1CKI/P1A/OSC1/CLKIN (io), 3 GP4/AN3/CIN1-/~{T1G}/P1B/OSC2/CLKOUT (io), 4 GP3/~{T1G}/~{MCLR}/VPP (io), 5 GP2/AN2/T0CKI/INT/COUT/CCP1/P1A (io), 6 GP1/AN1/CIN0-/VREF/ICSPCLK (io), 7 GP0/AN0/CIN+/P1B/ICSPDAT (io), 8 VSS (power)

## PIC12F615T-I/MD
designator U?
Flash-Based 8-Bit CMOS Microcontroller, 1K (x14-Bit words) Program Memory, 64 Bytes Data Memory, 8-Pin DFN, Industrial Temperature, Tape and Reel; Manufacturer: Microchip; PartNumber: PIC12F615T-I/MD; DatasheetVersion: revC, Sep-2009; PackageVersion: revBB, Aug-2009; PackageReference: DFN-MD8; PackageDescription: 8-Lead Plastic Dual Flat, No Lead Package (MD) - 4x4x0.9mm Body [DFN]; ComponentLink1Description: Manufacturer URL; ComponentLink1URL: http://www.microchip.com/; ComponentLink2Description: Datasheet; ComponentLink2URL: http://ww1.microchip.com/downloads/en/DeviceDoc/41302c.pdf; ComponentLink3Description: Package Specification; ComponentLink3URL: http://www.microchip.com/stellent/groups/techpub_sg/documents/packagingspec/en012702.pdf
footprint DFN-MD8 (SON, 8-Leads, Body 4x4mm, Pitch 0.8mm, Microchip Recommended)
pins: 1 VDD (power), 2 GP5/T1CKI/P1A/OSC1/CLKIN (io), 3 GP4/AN3/CIN1-/~{T1G}/P1B/OSC2/CLKOUT (io), 4 GP3/~{T1G}/~{MCLR}/VPP (io), 5 GP2/AN2/T0CKI/INT/COUT/CCP1/P1A (io), 6 GP1/AN1/CIN0-/VREF/ICSPCLK (io), 7 GP0/AN0/CIN+/P1B/ICSPDAT (io), 8 VSS (power), 9 Thermal Pad

## PIC12F615T-I/MDC01
designator U?
Flash-Based 8-Bit CMOS Microcontroller, 1K (x14-Bit words) Program Memory, 64 Bytes Data Memory, 8-Pin DFN, Industrial Temperature, Tape and Reel; Manufacturer: Microchip; PartNumber: PIC12F615T-I/MDC01; DatasheetVersion: revC, Sep-2009; PackageVersion: revBB, Aug-2009; PackageReference: DFN-MD8; PackageDescription: 8-Lead Plastic Dual Flat, No Lead Package (MD) - 4x4x0.9mm Body [DFN]; ComponentLink1Description: Manufacturer URL; ComponentLink1URL: http://www.microchip.com/; ComponentLink2Description: Datasheet; ComponentLink2URL: http://ww1.microchip.com/downloads/en/DeviceDoc/41302c.pdf; ComponentLink3Description: Package Specification; ComponentLink3URL: http://www.microchip.com/stellent/groups/techpub_sg/documents/packagingspec/en012702.pdf
footprint DFN-MD8 (SON, 8-Leads, Body 4x4mm, Pitch 0.8mm, Microchip Recommended)
pins: 1 VDD (power), 2 GP5/T1CKI/P1A/OSC1/CLKIN (io), 3 GP4/AN3/CIN1-/~{T1G}/P1B/OSC2/CLKOUT (io), 4 GP3/~{T1G}/~{MCLR}/VPP (io), 5 GP2/AN2/T0CKI/INT/COUT/CCP1/P1A (io), 6 GP1/AN1/CIN0-/VREF/ICSPCLK (io), 7 GP0/AN0/CIN+/P1B/ICSPDAT (io), 8 VSS (power), 9 Thermal Pad

## PIC12F615T-I/MF
designator U?
Flash-Based 8-Bit CMOS Microcontroller, 1K (x14-Bit words) Program Memory, 64 Bytes Data Memory, 8-Pin DFN, Industrial Temperature, Tape and Reel; Manufacturer: Microchip; PartNumber: PIC12F615T-I/MF; DatasheetVersion: revC, Sep-2009; PackageVersion: revBB, Aug-2009; PackageReference: DFNS-MF8; PackageDescription: 8-Lead Plastic Dual Flat, No Lead Package (MF) - 6x5 mm Body [DFN-S]; ComponentLink1Description: Manufacturer URL; ComponentLink1URL: http://www.microchip.com/; ComponentLink2Description: Datasheet; ComponentLink2URL: http://ww1.microchip.com/downloads/en/DeviceDoc/41302c.pdf; ComponentLink3Description: Package Specification; ComponentLink3URL: http://www.microchip.com/stellent/groups/techpub_sg/documents/packagingspec/en012702.pdf
footprint DFNS-MF8 (SON, 8-Leads, Body 5x6mm, Pitch 1.27mm, Microchip Recommended)
pins: 1 VDD (power), 2 GP5/T1CKI/P1A/OSC1/CLKIN (io), 3 GP4/AN3/CIN1-/~{T1G}/P1B/OSC2/CLKOUT (io), 4 GP3/~{T1G}/~{MCLR}/VPP (io), 5 GP2/AN2/T0CKI/INT/COUT/CCP1/P1A (io), 6 GP1/AN1/CIN0-/VREF/ICSPCLK (io), 7 GP0/AN0/CIN+/P1B/ICSPDAT (io), 8 VSS (power), 9 Thermal Pad

## PIC12F615T-I/MS
designator U?
Flash-Based 8-Bit CMOS Microcontroller, 1K (x14-Bit words) Program Memory, 64 Bytes Data Memory, 8-Pin MSOP, Industrial Temperature, Tape and Reel; Manufacturer: Microchip; PartNumber: PIC12F615T-I/MS; DatasheetVersion: revC, Sep-2009; PackageVersion: revBB, Aug-2009; PackageReference: MSOP-MS8; PackageDescription: 8-Lead Plastic Micro Small Outline Package (MS) [MSOP]; ComponentLink1Description: Manufacturer URL; ComponentLink1URL: http://www.microchip.com/; ComponentLink2Description: Datasheet; ComponentLink2URL: http://ww1.microchip.com/downloads/en/DeviceDoc/41302c.pdf; ComponentLink3Description: Package Specification; ComponentLink3URL: http://www.microchip.com/stellent/groups/techpub_sg/documents/packagingspec/en012702.pdf
footprint MSOP-MS8_N (TSOP, 8-Leads, Body 3x3mm, Pitch 0.65mm, IPC Medium Density)
footprint MSOP-MS8_L (TSOP, 8-Leads, Body 3x3mm, Pitch 0.65mm, IPC High Density)
footprint MSOP-MS8_M (TSOP, 8-Leads, Body 3x3mm, Pitch 0.65mm, IPC Low Density)
pins: 1 VDD (power), 2 GP5/T1CKI/P1A/OSC1/CLKIN (io), 3 GP4/AN3/CIN1-/~{T1G}/P1B/OSC2/CLKOUT (io), 4 GP3/~{T1G}/~{MCLR}/VPP (io), 5 GP2/AN2/T0CKI/INT/COUT/CCP1/P1A (io), 6 GP1/AN1/CIN0-/VREF/ICSPCLK (io), 7 GP0/AN0/CIN+/P1B/ICSPDAT (io), 8 VSS (power)

## PIC12F615T-I/SN
designator U?
Flash-Based 8-Bit CMOS Microcontroller, 1K (x14-Bit words) Program Memory, 64 Bytes Data Memory, 8-Pin SOIC, Industrial Temperature, Tape and Reel; Manufacturer: Microchip; PartNumber: PIC12F615T-I/SN; DatasheetVersion: revC, Sep-2009; PackageVersion: revBB, Aug-2009; PackageReference: SOIC-SN8; PackageDescription: 8-Lead Plastic Small Outline (SN) - Narrow, 3.90mm Body [SOIC]; Code_JEDEC: MS-012; Code_IPC: SOIC127P600-8; ComponentLink1Description: Manufacturer URL; ComponentLink1URL: http://www.microchip.com/; ComponentLink2Description: Datasheet; ComponentLink2URL: http://ww1.microchip.com/downloads/en/DeviceDoc/41302c.pdf; ComponentLink3Description: Package Specification; ComponentLink3URL: http://www.microchip.com/stellent/groups/techpub_sg/documents/packagingspec/en012702.pdf
footprint SOIC-SN8_N (SOIC, 8-Leads, Body 4.9x3.8mm, Pitch 1.27mm, IPC Medium Density)
footprint SOIC-SN8_L (SOIC, 8-Leads, Body 4.9x3.8mm, Pitch 1.27mm, IPC High Density)
footprint SOIC-SN8_M (SOIC, 8-Leads, Body 4.9x3.8mm, Pitch 1.27mm, IPC Low Density)
pins: 1 VDD (power), 2 GP5/T1CKI/P1A/OSC1/CLKIN (io), 3 GP4/AN3/CIN1-/~{T1G}/P1B/OSC2/CLKOUT (io), 4 GP3/~{T1G}/~{MCLR}/VPP (io), 5 GP2/AN2/T0CKI/INT/COUT/CCP1/P1A (io), 6 GP1/AN1/CIN0-/VREF/ICSPCLK (io), 7 GP0/AN0/CIN+/P1B/ICSPDAT (io), 8 VSS (power)

## PIC12F617-E/MF
designator U?
Flash-Based 8-Bit CMOS Microcontroller, 20 MHz, 5 I/O, -40 to 125 degC, 8-pin DFN (MF8), Tube; Manufacturer: Microchip; PartNumber: PIC12F617-E/MF; # of A/D Channels: 4; I/O Pins: 5; Internal Oscillator: 4 MHz, 8 MHz; Max. CPU Speed MHz: 20; Memory Type: Flash; Operation Voltage Range: 2V - 5.5V; Program Memory KBytes: 3.5; Program Memory KWords: 2; RAM: 128; Timers: 2 - 8-bit, 1 - 16-bit; DatasheetVersion: Rev. D; PackageVersion: C04-062C, 12/2012; PackageReference: DFN-MF8; PackageDescription: 8-Lead Plastic Dual Flat, No Lead Package, 3 x 3 mm Body, 0.65 mm Pitch; Supplier 1: Digi-Key; Supplier Part Number 1: PIC12F617-E/MF-ND; Supplier 2: Farnell; Supplier Part Number 2: 1778431; Supplier 3: Newark; Supplier Part Number 3: 53R0202; Supplier 4: Mouser; Supplier Part Number 4: 579-PIC12F617E/MF; Packing: TUBE; RoHS: TRUE; Mounting Technology: Surface Mount; ComponentLink1Description: Datasheet; ComponentLink1URL: http://ww1.microchip.com/downloads/en/DeviceDoc/41302D.pdf; ComponentLink2Description: Package Specification; ComponentLink2URL: http://www.microchip.com/stellent/groups/techpub_sg/documents/packagingspec/en012702.pdf; ComponentLink3Description: URL Link1; ComponentLink3URL: Product URL:http://www.microchip.com/datasheet/PIC12F617
footprint MCHP-DFN-MF8_V (SON, 8-Leads, Body 3x3mm, Pitch 0.65mm, Thermal Pad 2.4x1.55mm)
pins: 1 VDD (power) "Positive supply.", 2 GP5/T1CKI/P1A/OSC1/CLKIN (io), 3 GP4/AN3/CIN1-/~{T1G}/P1B/OSC2/CLKOUT (io), 4 GP3/~{T1G}/~{MCLR}/VPP (in), 5 GP2/AN2/T0CKI/INT/COUT/CCP1/P1A (io), 6 GP1/AN1/CIN0-/VREF/ICSPCLK (io), 7 GP0/AN0/CIN+/P1B/ICSPDAT (io), 8 VSS (power) "Ground reference.", 9 EP

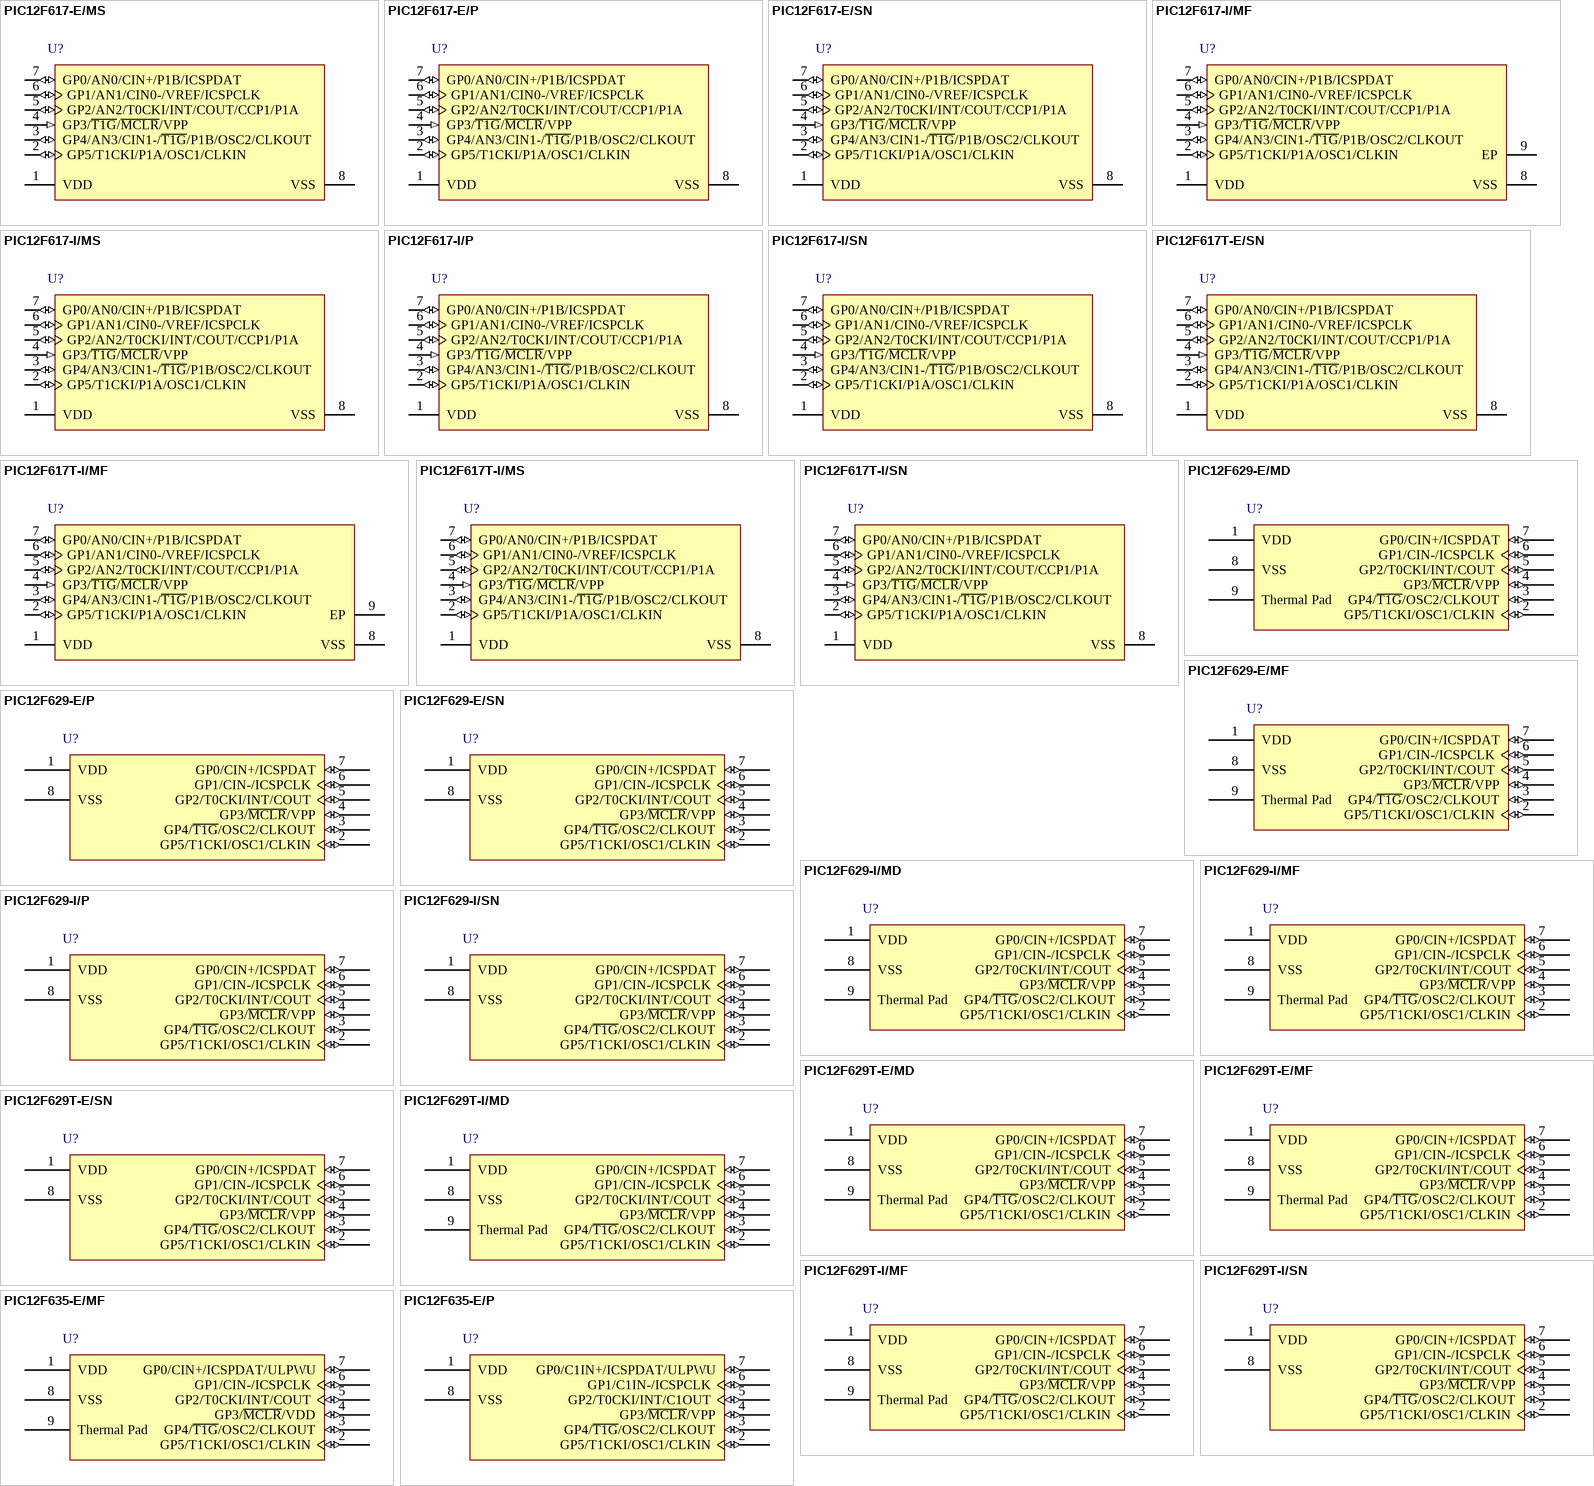
[diagram p7: symbols PIC12F617-E/MS to PIC12F635-E/P]

## PIC12F617-E/MS
designator U?
Flash-Based 8-Bit CMOS Microcontroller, 20 MHz, 5 I/O, -40 to 125 degC, 8-pin MSOP (MS8), Tube; Manufacturer: Microchip; PartNumber: PIC12F617-E/MS; # of A/D Channels: 4; I/O Pins: 5; Internal Oscillator: 4 MHz, 8 MHz; Max. CPU Speed MHz: 20; Memory Type: Flash; Operation Voltage Range: 2V - 5.5V; Program Memory KBytes: 3.5; Program Memory KWords: 2; RAM: 128; Timers: 2 - 8-bit, 1 - 16-bit; DatasheetVersion: Rev. D; PackageVersion: C04-111C, 12/2012; PackageReference: MSOP-MS8; PackageDescription: 8-Lead Plastic Micro Small Outline Package, 3 x 3 mm Body, 0.65 mm Pitch; Supplier 1: Digi-Key; Supplier Part Number 1: PIC12F617-E/MS-ND; Supplier 2: Farnell; Supplier Part Number 2: 1778433; Supplier 3: Newark; Supplier Part Number 3: 53R0203; Supplier 4: Mouser; Supplier Part Number 4: 579-PIC12F617E/MS; Packing: TUBE; RoHS: TRUE; Mounting Technology: Surface Mount; ComponentLink1Description: Datasheet; ComponentLink1URL: http://ww1.microchip.com/downloads/en/DeviceDoc/41302D.pdf; ComponentLink2Description: Package Specification; ComponentLink2URL: http://www.microchip.com/stellent/groups/techpub_sg/documents/packagingspec/en012702.pdf; ComponentLink3Description: URL Link1; ComponentLink3URL: Product URL:http://www.microchip.com/datasheet/PIC12F617
footprint MCHP-MSOP-MS8_N (SOP, 8-Leads, Body 3x3mm, Pitch 0.65mm, IPC Medium Density)
footprint MCHP-MSOP-MS8_L (SOP, 8-Leads, Body 3x3mm, Pitch 0.65mm, IPC High Density)
footprint MCHP-MSOP-MS8_M (SOP, 8-Leads, Body 3x3mm, Pitch 0.65mm, IPC Low Density)
pins: 1 VDD (power) "Positive supply", 2 GP5/T1CKI/P1A/OSC1/CLKIN (io), 3 GP4/AN3/CIN1-/~{T1G}/P1B/OSC2/CLKOUT (io), 4 GP3/~{T1G}/~{MCLR}/VPP (in), 5 GP2/AN2/T0CKI/INT/COUT/CCP1/P1A (io), 6 GP1/AN1/CIN0-/VREF/ICSPCLK (io), 7 GP0/AN0/CIN+/P1B/ICSPDAT (io), 8 VSS (power) "Ground reference"

## PIC12F617-E/P
designator U?
Flash-Based 8-Bit CMOS Microcontroller, 20 MHz, 5 I/O, -40 to 125 degC, 8-pin PDIP (P8), Tube; Manufacturer: Microchip; PartNumber: PIC12F617-E/P; # of A/D Channels: 4; I/O Pins: 5; Internal Oscillator: 4 MHz, 8 MHz; Max. CPU Speed MHz: 20; Memory Type: Flash; Operation Voltage Range: 2V - 5.5V; Program Memory KBytes: 3.5; Program Memory KWords: 2; RAM: 128; Timers: 2 - 8-bit, 1 - 16-bit; DatasheetVersion: Rev. D; PackageVersion: C04-018B, 12/2012; PackageReference: PDIP-P8; PackageDescription: 8-Lead Plastic Dual In-Line, Row Spacing 7.62 mm, 9.5 x 6.6 mm Body, 2.54 mm Pitch; Supplier 1: Digi-Key; Supplier Part Number 1: PIC12F617-E/P-ND; Supplier 2: Farnell; Supplier Part Number 2: 1778434; Supplier 3: Newark; Supplier Part Number 3: 53R0204; Supplier 4: Mouser; Supplier Part Number 4: 579-PIC12F617E/P; Packing: TUBE; RoHS: TRUE; Mounting Technology: Through Hole; ComponentLink1Description: Datasheet; ComponentLink1URL: http://ww1.microchip.com/downloads/en/DeviceDoc/41302D.pdf; ComponentLink2Description: Package Specification; ComponentLink2URL: http://www.microchip.com/stellent/groups/techpub_sg/documents/packagingspec/en012702.pdf; ComponentLink3Description: URL Link1; ComponentLink3URL: Product URL:http://www.microchip.com/datasheet/PIC12F617
footprint MCHP-PDIP-P8 (PDIP, 8-Leads, Body 9.5x6.604mm, Pitch 2.54mm)
pins: 1 VDD (power) "Positive supply", 2 GP5/T1CKI/P1A/OSC1/CLKIN (io), 3 GP4/AN3/CIN1-/~{T1G}/P1B/OSC2/CLKOUT (io), 4 GP3/~{T1G}/~{MCLR}/VPP (in), 5 GP2/AN2/T0CKI/INT/COUT/CCP1/P1A (io), 6 GP1/AN1/CIN0-/VREF/ICSPCLK (io), 7 GP0/AN0/CIN+/P1B/ICSPDAT (io), 8 VSS (power) "Ground reference"

## PIC12F617-E/SN
designator U?
Flash-Based 8-Bit CMOS Microcontroller, 20 MHz, 5 I/O, -40 to 125 degC, 8-pin SOIC (SN8), Tube; Manufacturer: Microchip; PartNumber: PIC12F617-E/SN; # of A/D Channels: 4; I/O Pins: 5; Internal Oscillator: 4 MHz, 8 MHz; Max. CPU Speed MHz: 20; Memory Type: Flash; Operation Voltage Range: 2V - 5.5V; Program Memory KBytes: 3.5; Program Memory KWords: 2; RAM: 128; Timers: 2 - 8-bit, 1 - 16-bit; DatasheetVersion: Rev. D; PackageVersion: C04-057C, 12/2012; PackageReference: SOIC-SN8; PackageDescription: 8-Lead Plastic Small Outline, 4.9 x 3.9 mm Body, 1.27 mm Pitch; Supplier 1: Digi-Key; Supplier Part Number 1: PIC12F617-E/SN-ND; Supplier 2: Newark; Supplier Part Number 2: 53R0205; Supplier 3: Mouser; Supplier Part Number 3: 579-PIC12F617E/SN; Packing: TUBE; RoHS: TRUE; Mounting Technology: Surface Mount; ComponentLink1Description: Datasheet; ComponentLink1URL: http://ww1.microchip.com/downloads/en/DeviceDoc/41302D.pdf; ComponentLink2Description: Package Specification; ComponentLink2URL: http://www.microchip.com/stellent/groups/techpub_sg/documents/packagingspec/en012702.pdf; ComponentLink3Description: URL Link1; ComponentLink3URL: Product URL:http://www.microchip.com/datasheet/PIC12F617
footprint MCHP-SOIC-SN8_N (SOIC, 8-Leads, Body 4.9x3.9mm, Pitch 1.27mm, IPC Medium Density)
footprint MCHP-SOIC-SN8_L (SOIC, 8-Leads, Body 4.9x3.9mm, Pitch 1.27mm, IPC High Density)
footprint MCHP-SOIC-SN8_M (SOIC, 8-Leads, Body 4.9x3.9mm, Pitch 1.27mm, IPC Low Density)
pins: 1 VDD (power) "Positive supply", 2 GP5/T1CKI/P1A/OSC1/CLKIN (io), 3 GP4/AN3/CIN1-/~{T1G}/P1B/OSC2/CLKOUT (io), 4 GP3/~{T1G}/~{MCLR}/VPP (in), 5 GP2/AN2/T0CKI/INT/COUT/CCP1/P1A (io), 6 GP1/AN1/CIN0-/VREF/ICSPCLK (io), 7 GP0/AN0/CIN+/P1B/ICSPDAT (io), 8 VSS (power) "Ground reference"

## PIC12F617-I/MF
designator U?
Flash-Based 8-Bit CMOS Microcontroller, 20 MHz, 5 I/O, -40 to 85 degC, 8-pin DFN (MF8), Tube; Manufacturer: Microchip; PartNumber: PIC12F617-I/MF; # of A/D Channels: 4; I/O Pins: 5; Internal Oscillator: 4 MHz, 8 MHz; Max. CPU Speed MHz: 20; Memory Type: Flash; Operation Voltage Range: 2V - 5.5V; Program Memory KBytes: 3.5; Program Memory KWords: 2; RAM: 128; Timers: 2 - 8-bit, 1 - 16-bit; DatasheetVersion: Rev. D; PackageVersion: C04-062C, 12/2012; PackageReference: DFN-MF8; PackageDescription: 8-Lead Plastic Dual Flat, No Lead Package, 3 x 3 mm Body, 0.65 mm Pitch; Supplier 1: Digi-Key; Supplier Part Number 1: PIC12F617-I/MF-ND; Supplier 2: Farnell; Supplier Part Number 2: 1778435; Supplier 3: Newark; Supplier Part Number 3: 53R0206; Supplier 4: Mouser; Supplier Part Number 4: 579-PIC12F617I/MF; Packing: TUBE; RoHS: TRUE; Mounting Technology: Surface Mount; ComponentLink1Description: Datasheet; ComponentLink1URL: http://ww1.microchip.com/downloads/en/DeviceDoc/41302D.pdf; ComponentLink2Description: Package Specification; ComponentLink2URL: http://www.microchip.com/stellent/groups/techpub_sg/documents/packagingspec/en012702.pdf; ComponentLink3Description: URL Link1; ComponentLink3URL: Product URL:http://www.microchip.com/datasheet/PIC12F617
footprint MCHP-DFN-MF8_V (SON, 8-Leads, Body 3x3mm, Pitch 0.65mm, Thermal Pad 2.4x1.55mm)
pins: 1 VDD (power) "Positive supply.", 2 GP5/T1CKI/P1A/OSC1/CLKIN (io), 3 GP4/AN3/CIN1-/~{T1G}/P1B/OSC2/CLKOUT (io), 4 GP3/~{T1G}/~{MCLR}/VPP (in), 5 GP2/AN2/T0CKI/INT/COUT/CCP1/P1A (io), 6 GP1/AN1/CIN0-/VREF/ICSPCLK (io), 7 GP0/AN0/CIN+/P1B/ICSPDAT (io), 8 VSS (power) "Ground reference.", 9 EP

## PIC12F617-I/MS
designator U?
Flash-Based 8-Bit CMOS Microcontroller, 20 MHz, 5 I/O, -40 to 85 degC, 8-pin MSOP (MS8), Tube; Manufacturer: Microchip; PartNumber: PIC12F617-I/MS; # of A/D Channels: 4; I/O Pins: 5; Internal Oscillator: 4 MHz, 8 MHz; Max. CPU Speed MHz: 20; Memory Type: Flash; Operation Voltage Range: 2V - 5.5V; Program Memory KBytes: 3.5; Program Memory KWords: 2; RAM: 128; Timers: 2 - 8-bit, 1 - 16-bit; DatasheetVersion: Rev. D; PackageVersion: C04-111C, 12/2012; PackageReference: MSOP-MS8; PackageDescription: 8-Lead Plastic Micro Small Outline Package, 3 x 3 mm Body, 0.65 mm Pitch; Supplier 1: Digi-Key; Supplier Part Number 1: PIC12F617-I/MS-ND; Supplier 2: Farnell; Supplier Part Number 2: 1778436; Supplier 3: Newark; Supplier Part Number 3: 52R6159; Supplier 4: Newark; Supplier Part Number 4: 53R0207; Supplier 5: Mouser; Supplier Part Number 5: 579-PIC12F617I/MS; Packing: TUBE; RoHS: TRUE; Mounting Technology: Surface Mount; ComponentLink1Description: Datasheet; ComponentLink1URL: http://ww1.microchip.com/downloads/en/DeviceDoc/41302D.pdf; ComponentLink2Description: Package Specification; ComponentLink2URL: http://www.microchip.com/stellent/groups/techpub_sg/documents/packagingspec/en012702.pdf; ComponentLink3Description: URL Link1; ComponentLink3URL: Product URL:http://www.microchip.com/datasheet/PIC12F617
footprint MCHP-MSOP-MS8_N (SOP, 8-Leads, Body 3x3mm, Pitch 0.65mm, IPC Medium Density)
footprint MCHP-MSOP-MS8_L (SOP, 8-Leads, Body 3x3mm, Pitch 0.65mm, IPC High Density)
footprint MCHP-MSOP-MS8_M (SOP, 8-Leads, Body 3x3mm, Pitch 0.65mm, IPC Low Density)
pins: 1 VDD (power) "Positive supply", 2 GP5/T1CKI/P1A/OSC1/CLKIN (io), 3 GP4/AN3/CIN1-/~{T1G}/P1B/OSC2/CLKOUT (io), 4 GP3/~{T1G}/~{MCLR}/VPP (in), 5 GP2/AN2/T0CKI/INT/COUT/CCP1/P1A (io), 6 GP1/AN1/CIN0-/VREF/ICSPCLK (io), 7 GP0/AN0/CIN+/P1B/ICSPDAT (io), 8 VSS (power) "Ground reference"

## PIC12F617-I/P
designator U?
Flash-Based 8-Bit CMOS Microcontroller, 20 MHz, 5 I/O, -40 to 85 degC, 8-pin PDIP (P8), Tube; Manufacturer: Microchip; PartNumber: PIC12F617-I/P; # of A/D Channels: 4; I/O Pins: 5; Internal Oscillator: 4 MHz, 8 MHz; Max. CPU Speed MHz: 20; Memory Type: Flash; Operation Voltage Range: 2V - 5.5V; Program Memory KBytes: 3.5; Program Memory KWords: 2; RAM: 128; Timers: 2 - 8-bit, 1 - 16-bit; DatasheetVersion: Rev. D; PackageVersion: C04-018B, 12/2012; PackageReference: PDIP-P8; PackageDescription: 8-Lead Plastic Dual In-Line, Row Spacing 7.62 mm, 9.5 x 6.6 mm Body, 2.54 mm Pitch; Supplier 1: Digi-Key; Supplier Part Number 1: PIC12F617-I/P-ND; Supplier 2: Farnell; Supplier Part Number 2: 1778437; Supplier 3: Newark; Supplier Part Number 3: 53R0208; Supplier 4: Mouser; Supplier Part Number 4: 579-PIC12F617I/P; Packing: TUBE; RoHS: TRUE; Mounting Technology: Through Hole; ComponentLink1Description: Datasheet; ComponentLink1URL: http://ww1.microchip.com/downloads/en/DeviceDoc/41302D.pdf; ComponentLink2Description: Package Specification; ComponentLink2URL: http://www.microchip.com/stellent/groups/techpub_sg/documents/packagingspec/en012702.pdf; ComponentLink3Description: URL Link1; ComponentLink3URL: Product URL:http://www.microchip.com/datasheet/PIC12F617
footprint MCHP-PDIP-P8 (PDIP, 8-Leads, Body 9.5x6.604mm, Pitch 2.54mm)
pins: 1 VDD (power) "Positive supply", 2 GP5/T1CKI/P1A/OSC1/CLKIN (io), 3 GP4/AN3/CIN1-/~{T1G}/P1B/OSC2/CLKOUT (io), 4 GP3/~{T1G}/~{MCLR}/VPP (in), 5 GP2/AN2/T0CKI/INT/COUT/CCP1/P1A (io), 6 GP1/AN1/CIN0-/VREF/ICSPCLK (io), 7 GP0/AN0/CIN+/P1B/ICSPDAT (io), 8 VSS (power) "Ground reference"